# Altium footprint library Socket.PcbLib: 15 footprints
Each footprint in its own frame and in the unit in brackets; x right, y up, seen from the top. Pads: shape width x height; smd on the part's side, far side on the other; paste and mask are expansions set on the pad; w line width, h text height; cw(c..) or ccw(c..) is an arc to the next point about the centre after c.
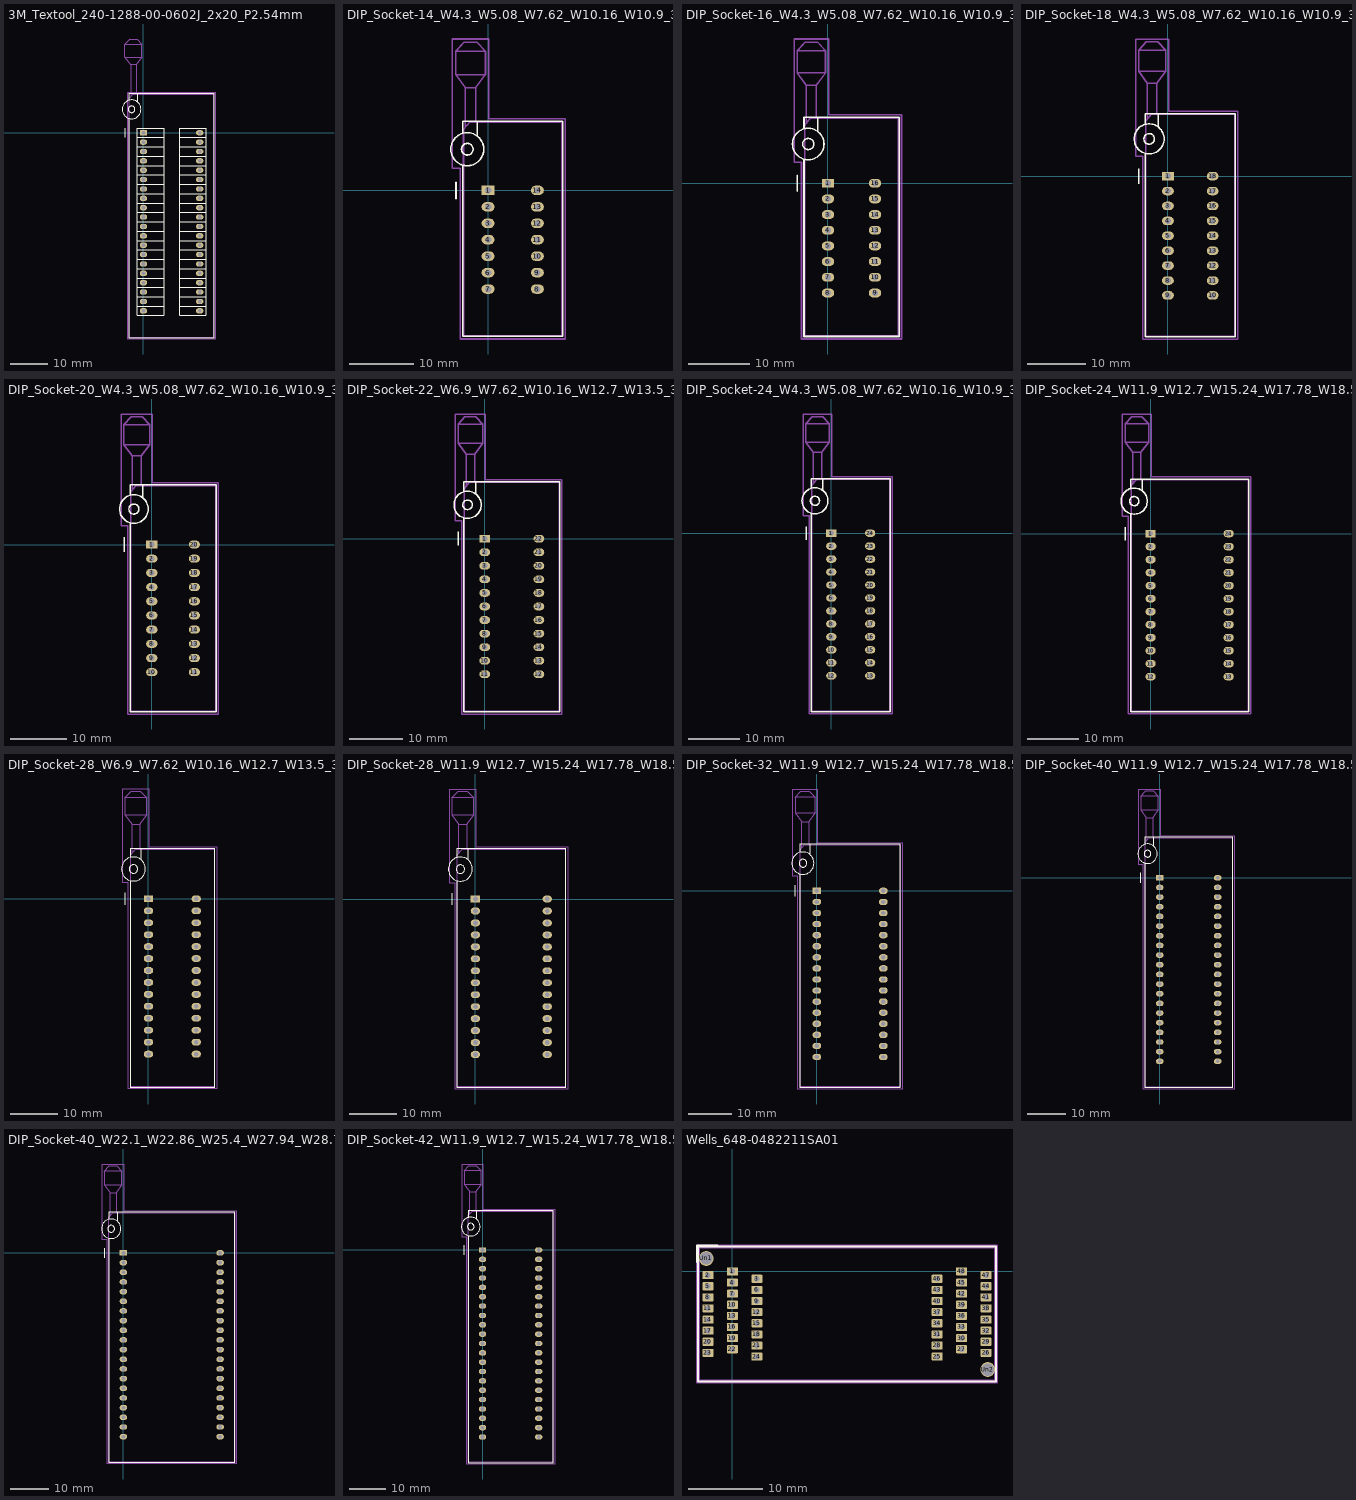
[diagram p0: the footprints below, top view; thin cyan lines are the x and y axes]

## 3M_Textool_240-1288-00-0602J_2x20_P2.54mm [mm]
pads (40):
  rect 2x1.44 hole 1: 1(0,0)
  rrect100% 2x1.44 hole 1: 2(0,-2.54) 3(0,-5.08) 4(0,-7.62) 5(0,-10.16) 6(0,-12.7) 7(0,-15.24) 8(0,-17.78) 9(0,-20.32) 10(0,-22.86) 11(0,-25.4) 12(0,-27.94) 13(0,-30.48) 14(0,-33.02) 15(0,-35.56) 16(0,-38.1) 17(0,-40.64) 18(0,-43.18) 19(0,-45.72) 20(0,-48.26) 21(15.24,-48.26) 22(15.24,-45.72) 23(15.24,-43.18) 24(15.24,-40.64) 25(15.24,-38.1) 26(15.24,-35.56) 27(15.24,-33.02) 28(15.24,-30.48) 29(15.24,-27.94) 30(15.24,-25.4) 31(15.24,-22.86) 32(15.24,-20.32) 33(15.24,-17.78) 34(15.24,-15.24) 35(15.24,-12.7) 36(15.24,-10.16) 37(15.24,-7.62) 38(15.24,-5.08) 39(15.24,-2.54) 40(15.24,0)
F.SilkS:
  circle w0.254: c-3.2,6.35 r0.9
  circle w0.254: c-3.2,6.35 r2.55
  lines w0.254: -4.95,-1.27 -4.95,1.27 ; -3.95,3.9 -3.95,-55.5 19.15,-55.5 19.15,10.5 -3.95,10.5 -3.95,8.8 ; -1.65,8.4 -1.65,10.4 ; -1.645,-46.99 -1.645,-44.45 ; -1.645,-46.99 5.455,-46.99 ; -1.645,-46.99 -1.645,-49.53 5.455,-49.53 5.455,-46.99 ; -1.645,-44.45 -1.645,-41.91 ; -1.645,-44.45 5.455,-44.45 ; -1.645,-41.91 -1.645,-39.37 ; -1.645,-41.91 5.455,-41.91 ; -1.645,-39.37 -1.645,-36.83 ; -1.645,-39.37 5.455,-39.37 ; -1.645,-36.83 -1.645,-34.29 ; -1.645,-36.83 5.455,-36.83 ; -1.645,-34.29 -1.645,-31.75 ; -1.645,-34.29 5.455,-34.29 ; -1.645,-31.75 -1.645,-29.21 ; -1.645,-31.75 5.455,-31.75 ; -1.645,-29.21 -1.645,-26.67 ; -1.645,-29.21 5.455,-29.21 ; -1.645,-26.67 -1.645,-24.13 ; -1.645,-26.67 5.455,-26.67 ; -1.645,-24.13 -1.645,-21.59 ; -1.645,-24.13 5.455,-24.13 ; -1.645,-21.59 -1.645,-19.05 ; -1.645,-21.59 5.455,-21.59 ; -1.645,-19.05 -1.645,-16.51 ; -1.645,-19.05 5.455,-19.05 ; -1.645,-16.51 -1.645,-13.97 ; -1.645,-16.51 5.455,-16.51 ; -1.645,-13.97 -1.645,-11.43 ; -1.645,-13.97 5.455,-13.97 ; -1.645,-11.43 -1.645,-8.89 ; -1.645,-11.43 5.455,-11.43 ; -1.645,-8.89 -1.645,-6.35 ; -1.645,-8.89 5.455,-8.89 ; -1.645,-6.35 -1.645,-3.81 ; -1.645,-6.35 5.455,-6.35 ; -1.645,-3.81 -1.645,-1.27 ; -1.645,-3.81 5.455,-3.81 ; -1.645,-1.27 -1.645,1.27 5.455,1.27 5.455,-1.27 ; -1.645,-1.27 5.455,-1.27 ; 5.455,-46.99 5.455,-44.45 ; 5.455,-44.45 5.455,-41.91 ; 5.455,-41.91 5.455,-39.37 ; 5.455,-39.37 5.455,-36.83 ; 5.455,-36.83 5.455,-34.29 ; 5.455,-34.29 5.455,-31.75 ; 5.455,-31.75 5.455,-29.21 ; 5.455,-29.21 5.455,-26.67 ; 5.455,-26.67 5.455,-24.13 ; 5.455,-24.13 5.455,-21.59 ; 5.455,-21.59 5.455,-19.05 ; 5.455,-19.05 5.455,-16.51 ; 5.455,-16.51 5.455,-13.97 ; 5.455,-13.97 5.455,-11.43 ; 5.455,-11.43 5.455,-8.89 ; 5.455,-8.89 5.455,-6.35 ; 5.455,-6.35 5.455,-3.81 ; 5.455,-3.81 5.455,-1.27 ; 9.785,-46.99 9.785,-44.45 ; 9.785,-46.99 16.885,-46.99 ; 9.785,-46.99 9.785,-49.53 16.885,-49.53 16.885,-46.99 ; 9.785,-44.45 9.785,-41.91 ; 9.785,-44.45 16.885,-44.45 ; 9.785,-41.91 9.785,-39.37 ; 9.785,-41.91 16.885,-41.91 ; 9.785,-39.37 9.785,-36.83 ; 9.785,-39.37 16.885,-39.37 ; 9.785,-36.83 9.785,-34.29 ; 9.785,-36.83 16.885,-36.83 ; 9.785,-34.29 9.785,-31.75 ; 9.785,-34.29 16.885,-34.29 ; 9.785,-31.75 9.785,-29.21 ; 9.785,-31.75 16.885,-31.75 ; 9.785,-29.21 9.785,-26.67 ; 9.785,-29.21 16.885,-29.21 ; 9.785,-26.67 9.785,-24.13 ; 9.785,-26.67 16.885,-26.67 ; 9.785,-24.13 9.785,-21.59 ; 9.785,-24.13 16.885,-24.13 ; 9.785,-21.59 9.785,-19.05 ; 9.785,-21.59 16.885,-21.59 ; 9.785,-19.05 9.785,-16.51 ; 9.785,-19.05 16.885,-19.05 ; 9.785,-16.51 9.785,-13.97 ; 9.785,-16.51 16.885,-16.51 ; 9.785,-13.97 9.785,-11.43 ; 9.785,-13.97 16.885,-13.97 ; 9.785,-11.43 9.785,-8.89 ; 9.785,-11.43 16.885,-11.43 ; 9.785,-8.89 9.785,-6.35 ; 9.785,-8.89 16.885,-8.89 ; 9.785,-6.35 9.785,-3.81 ; 9.785,-6.35 16.885,-6.35 ; 9.785,-3.81 9.785,-1.27 ; 9.785,-3.81 16.885,-3.81 ; 9.785,-1.27 9.785,1.27 16.885,1.27 16.885,-1.27 ; 9.785,-1.27 16.885,-1.27 ; 16.885,-46.99 16.885,-44.45 ; 16.885,-44.45 16.885,-41.91 ; 16.885,-41.91 16.885,-39.37 ; 16.885,-39.37 16.885,-36.83 ; 16.885,-36.83 16.885,-34.29 ; 16.885,-34.29 16.885,-31.75 ; 16.885,-31.75 16.885,-29.21 ; 16.885,-29.21 16.885,-26.67 ; 16.885,-26.67 16.885,-24.13 ; 16.885,-24.13 16.885,-21.59 ; 16.885,-21.59 16.885,-19.05 ; 16.885,-19.05 16.885,-16.51 ; 16.885,-16.51 16.885,-13.97 ; 16.885,-13.97 16.885,-11.43 ; 16.885,-11.43 16.885,-8.89 ; 16.885,-8.89 16.885,-6.35 ; 16.885,-6.35 16.885,-3.81 ; 16.885,-3.81 16.885,-1.27
F.Fab:
  lines w0.254: -3.5,9.75 -3.5,18.4 ; -1.9,10.4 -1.9,18.4 ; -5,20.4 -5,24 ; -5,20.4 -3.5,18.4 ; -5,20.4 -0.4,20.4 ; -5,24 -0.4,24 ; -5,24 -3.7,25.4 -1.7,25.4 -0.4,24 ; -3.5,18.4 -1.9,18.4 ; -1.9,18.4 -0.4,20.4 ; -0.4,20.4 -0.4,24 ; -3.85,-55.4 -3.85,9.4 -2.85,10.4 19.05,10.4 19.05,-55.4 -3.85,-55.4
  text "'.Designator'" at 3.573,-25.605 h1
F.CrtYd:
  lines w0.254: -4.3,-55.9 -4.3,10.9 19.6,10.9 19.6,-55.9 -4.3,-55.9

## DIP_Socket-14_W4.3_W5.08_W7.62_W10.16_W10.9_3M_214-3339-00-0602J [mm]
pads (14):
  rect 2x1.44 hole 1: 1(0,0)
  rrect100% 2x1.44 hole 1: 2(0,-2.54) 3(0,-5.08) 4(0,-7.62) 5(0,-10.16) 6(0,-12.7) 7(0,-15.24) 8(7.62,-15.24) 9(7.62,-12.7) 10(7.62,-10.16) 11(7.62,-7.62) 12(7.62,-5.08) 13(7.62,-2.54) 14(7.62,0)
F.SilkS:
  circle w0.254: c-3.2,6.35 r0.9
  circle w0.254: c-3.2,6.35 r2.55
  lines w0.254: -4.95,-1.27 -4.95,1.27 ; -3.89,3.9 -3.89,-22.54 11.51,-22.54 11.51,10.66 -3.89,10.66 -3.89,8.8 ; -1.65,8.4 -1.65,10.66
F.Fab:
  lines w0.254: -3.5,9.75 -3.5,15.86 ; -1.9,10.56 -1.9,15.86 ; -5,17.86 -5,21.46 ; -5,17.86 -3.5,15.86 ; -5,17.86 -0.4,17.86 ; -5,21.46 -3.7,22.86 -1.7,22.86 -0.4,21.46 ; -5,21.46 -0.4,21.46 ; -3.5,15.86 -1.9,15.86 ; -1.9,15.86 -0.4,17.86 ; -0.4,17.86 -0.4,21.46 ; -3.79,-22.44 -3.79,9.4 -2.85,10.56 11.41,10.56 11.41,-22.44 -3.79,-22.44
  text "'.Designator'" at -0.237,-6.78 h1
F.CrtYd:
  lines w0.254: -5.5,3.4 -5.5,23.36 0.1,23.36 0.1,11.06 11.91,11.06 11.91,-22.94 -4.29,-22.94 -4.29,3.4 -5.5,3.4

## DIP_Socket-16_W4.3_W5.08_W7.62_W10.16_W10.9_3M_216-3340-00-0602J [mm]
pads (16):
  rect 2x1.44 hole 1: 1(0,0)
  rrect100% 2x1.44 hole 1: 2(0,-2.54) 3(0,-5.08) 4(0,-7.62) 5(0,-10.16) 6(0,-12.7) 7(0,-15.24) 8(0,-17.78) 9(7.62,-17.78) 10(7.62,-15.24) 11(7.62,-12.7) 12(7.62,-10.16) 13(7.62,-7.62) 14(7.62,-5.08) 15(7.62,-2.54) 16(7.62,0)
F.SilkS:
  circle w0.254: c-3.2,6.35 r0.9
  circle w0.254: c-3.2,6.35 r2.55
  lines w0.254: -4.95,-1.27 -4.95,1.27 ; -3.89,3.9 -3.89,-24.84 11.51,-24.84 11.51,10.66 -3.89,10.66 -3.89,8.8 ; -1.65,8.4 -1.65,10.66
F.Fab:
  lines w0.254: -3.5,9.75 -3.5,15.86 ; -1.9,10.56 -1.9,15.86 ; -5,17.86 -5,21.46 ; -5,17.86 -3.5,15.86 ; -5,17.86 -0.4,17.86 ; -5,21.46 -3.7,22.86 -1.7,22.86 -0.4,21.46 ; -5,21.46 -0.4,21.46 ; -3.5,15.86 -1.9,15.86 ; -1.9,15.86 -0.4,17.86 ; -0.4,17.86 -0.4,21.46 ; -3.79,-24.74 -3.79,9.4 -2.85,10.56 11.41,10.56 11.41,-24.74 -3.79,-24.74
  text "'.Designator'" at -0.237,-7.93 h1
F.CrtYd:
  lines w0.254: -5.5,3.4 -5.5,23.36 0.1,23.36 0.1,11.06 11.91,11.06 11.91,-25.24 -4.29,-25.24 -4.29,3.4 -5.5,3.4

## DIP_Socket-18_W4.3_W5.08_W7.62_W10.16_W10.9_3M_218-3341-00-0602J [mm]
pads (18):
  rect 2x1.44 hole 1: 1(0,0)
  rrect100% 2x1.44 hole 1: 2(0,-2.54) 3(0,-5.08) 4(0,-7.62) 5(0,-10.16) 6(0,-12.7) 7(0,-15.24) 8(0,-17.78) 9(0,-20.32) 10(7.62,-20.32) 11(7.62,-17.78) 12(7.62,-15.24) 13(7.62,-12.7) 14(7.62,-10.16) 15(7.62,-7.62) 16(7.62,-5.08) 17(7.62,-2.54) 18(7.62,0)
F.SilkS:
  circle w0.254: c-3.2,6.35 r0.9
  circle w0.254: c-3.2,6.35 r2.55
  lines w0.254: -4.95,-1.27 -4.95,1.27 ; -3.89,3.9 -3.89,-27.34 11.51,-27.34 11.51,10.66 -3.89,10.66 -3.89,8.8 ; -1.65,8.4 -1.65,10.66
F.Fab:
  lines w0.254: -3.5,9.75 -3.5,15.86 ; -1.9,10.56 -1.9,15.86 ; -5,17.86 -5,21.46 ; -5,17.86 -3.5,15.86 ; -5,17.86 -0.4,17.86 ; -5,21.46 -3.7,22.86 -1.7,22.86 -0.4,21.46 ; -5,21.46 -0.4,21.46 ; -3.5,15.86 -1.9,15.86 ; -1.9,15.86 -0.4,17.86 ; -0.4,17.86 -0.4,21.46 ; -3.79,-27.24 -3.79,9.4 -2.85,10.56 11.41,10.56 11.41,-27.24 -3.79,-27.24
  text "'.Designator'" at -0.237,-9.18 h1
F.CrtYd:
  lines w0.254: -5.5,3.4 -5.5,23.36 0.1,23.36 0.1,11.06 11.91,11.06 11.91,-27.74 -4.29,-27.74 -4.29,3.4 -5.5,3.4

## DIP_Socket-20_W4.3_W5.08_W7.62_W10.16_W10.9_3M_220-3342-00-0602J [mm]
pads (20):
  rect 2x1.44 hole 1: 1(0,0)
  rrect100% 2x1.44 hole 1: 2(0,-2.54) 3(0,-5.08) 4(0,-7.62) 5(0,-10.16) 6(0,-12.7) 7(0,-15.24) 8(0,-17.78) 9(0,-20.32) 10(0,-22.86) 11(7.62,-22.86) 12(7.62,-20.32) 13(7.62,-17.78) 14(7.62,-15.24) 15(7.62,-12.7) 16(7.62,-10.16) 17(7.62,-7.62) 18(7.62,-5.08) 19(7.62,-2.54) 20(7.62,0)
F.SilkS:
  circle w0.254: c-3.2,6.35 r0.9
  circle w0.254: c-3.2,6.35 r2.55
  lines w0.254: -4.95,-1.27 -4.95,1.27 ; -3.89,3.9 -3.89,-29.94 11.51,-29.94 11.51,10.66 -3.89,10.66 -3.89,8.8 ; -1.65,8.4 -1.65,10.66
F.Fab:
  lines w0.254: -3.5,9.75 -3.5,15.86 ; -1.9,10.56 -1.9,15.86 ; -5,17.86 -5,21.46 ; -5,17.86 -3.5,15.86 ; -5,17.86 -0.4,17.86 ; -5,21.46 -3.7,22.86 -1.7,22.86 -0.4,21.46 ; -5,21.46 -0.4,21.46 ; -3.5,15.86 -1.9,15.86 ; -1.9,15.86 -0.4,17.86 ; -0.4,17.86 -0.4,21.46 ; -3.79,-29.84 -3.79,9.4 -2.85,10.56 11.41,10.56 11.41,-29.84 -3.79,-29.84
  text "'.Designator'" at -0.237,-10.48 h1
F.CrtYd:
  lines w0.254: -5.5,3.4 -5.5,23.36 0.1,23.36 0.1,11.06 11.91,11.06 11.91,-30.34 -4.29,-30.34 -4.29,3.4 -5.5,3.4

## DIP_Socket-22_W6.9_W7.62_W10.16_W12.7_W13.5_3M_222-3343-00-0602J [mm]
pads (22):
  rect 2x1.44 hole 1: 1(0,0)
  rrect100% 2x1.44 hole 1: 2(0,-2.54) 3(0,-5.08) 4(0,-7.62) 5(0,-10.16) 6(0,-12.7) 7(0,-15.24) 8(0,-17.78) 9(0,-20.32) 10(0,-22.86) 11(0,-25.4) 12(10.16,-25.4) 13(10.16,-22.86) 14(10.16,-20.32) 15(10.16,-17.78) 16(10.16,-15.24) 17(10.16,-12.7) 18(10.16,-10.16) 19(10.16,-7.62) 20(10.16,-5.08) 21(10.16,-2.54) 22(10.16,0)
F.SilkS:
  circle w0.254: c-3.2,6.35 r0.9
  circle w0.254: c-3.2,6.35 r2.55
  lines w0.254: -4.95,-1.27 -4.95,1.27 ; -3.92,3.9 -3.92,-32.44 14.08,-32.44 14.08,10.66 -3.92,10.66 -3.92,8.8 ; -1.65,8.4 -1.65,10.66
F.Fab:
  lines w0.254: -3.5,9.75 -3.5,15.86 ; -1.9,10.56 -1.9,15.86 ; -5,17.86 -5,21.46 ; -5,17.86 -3.5,15.86 ; -5,17.86 -0.4,17.86 ; -5,21.46 -3.7,22.86 -1.7,22.86 -0.4,21.46 ; -5,21.46 -0.4,21.46 ; -3.5,15.86 -1.9,15.86 ; -1.9,15.86 -0.4,17.86 ; -0.4,17.86 -0.4,21.46 ; -3.82,-32.34 -3.82,9.4 -2.85,10.56 13.98,10.56 13.98,-32.34 -3.82,-32.34
  text "'.Designator'" at 1.033,-11.73 h1
F.CrtYd:
  lines w0.254: -5.5,3.4 -5.5,23.36 0.1,23.36 0.1,11.06 14.48,11.06 14.48,-32.84 -4.32,-32.84 -4.32,3.4 -5.5,3.4

## DIP_Socket-24_W4.3_W5.08_W7.62_W10.16_W10.9_3M_224-5248-00-0602J [mm]
pads (24):
  rect 2x1.44 hole 1: 1(0,0)
  rrect100% 2x1.44 hole 1: 2(0,-2.54) 3(0,-5.08) 4(0,-7.62) 5(0,-10.16) 6(0,-12.7) 7(0,-15.24) 8(0,-17.78) 9(0,-20.32) 10(0,-22.86) 11(0,-25.4) 12(0,-27.94) 13(7.62,-27.94) 14(7.62,-25.4) 15(7.62,-22.86) 16(7.62,-20.32) 17(7.62,-17.78) 18(7.62,-15.24) 19(7.62,-12.7) 20(7.62,-10.16) 21(7.62,-7.62) 22(7.62,-5.08) 23(7.62,-2.54) 24(7.62,0)
F.SilkS:
  circle w0.254: c-3.2,6.35 r0.9
  circle w0.254: c-3.2,6.35 r2.55
  lines w0.254: -4.95,-1.27 -4.95,1.27 ; -3.89,3.9 -3.89,-35.04 11.51,-35.04 11.51,10.66 -3.89,10.66 -3.89,8.8 ; -1.65,8.4 -1.65,10.66
F.Fab:
  lines w0.254: -3.5,9.75 -3.5,15.86 ; -1.9,10.56 -1.9,15.86 ; -5,17.86 -5,21.46 ; -5,17.86 -3.5,15.86 ; -5,17.86 -0.4,17.86 ; -5,21.46 -3.7,22.86 -1.7,22.86 -0.4,21.46 ; -5,21.46 -0.4,21.46 ; -3.5,15.86 -1.9,15.86 ; -1.9,15.86 -0.4,17.86 ; -0.4,17.86 -0.4,21.46 ; -3.79,-34.94 -3.79,9.4 -2.85,10.56 11.41,10.56 11.41,-34.94 -3.79,-34.94
  text "'.Designator'" at -0.237,-13.03 h1
F.CrtYd:
  lines w0.254: -5.5,3.4 -5.5,23.36 0.1,23.36 0.1,11.06 11.91,11.06 11.91,-35.44 -4.29,-35.44 -4.29,3.4 -5.5,3.4

## DIP_Socket-24_W11.9_W12.7_W15.24_W17.78_W18.5_3M_224-1275-00-0602J [mm]
pads (24):
  rect 2x1.44 hole 1: 1(0,0)
  rrect100% 2x1.44 hole 1: 2(0,-2.54) 3(0,-5.08) 4(0,-7.62) 5(0,-10.16) 6(0,-12.7) 7(0,-15.24) 8(0,-17.78) 9(0,-20.32) 10(0,-22.86) 11(0,-25.4) 12(0,-27.94) 13(15.24,-27.94) 14(15.24,-25.4) 15(15.24,-22.86) 16(15.24,-20.32) 17(15.24,-17.78) 18(15.24,-15.24) 19(15.24,-12.7) 20(15.24,-10.16) 21(15.24,-7.62) 22(15.24,-5.08) 23(15.24,-2.54) 24(15.24,0)
F.SilkS:
  circle w0.254: c-3.2,6.35 r0.9
  circle w0.254: c-3.2,6.35 r2.55
  lines w0.254: -4.95,-1.27 -4.95,1.27 ; -3.93,3.9 -3.93,-34.84 19.17,-34.84 19.17,10.66 -3.93,10.66 -3.93,8.8 ; -1.65,8.4 -1.65,10.66
F.Fab:
  lines w0.254: -3.5,9.75 -3.5,15.86 ; -1.9,10.56 -1.9,15.86 ; -5,17.86 -5,21.46 ; -5,17.86 -3.5,15.86 ; -5,17.86 -0.4,17.86 ; -5,21.46 -3.7,22.86 -1.7,22.86 -0.4,21.46 ; -5,21.46 -0.4,21.46 ; -3.5,15.86 -1.9,15.86 ; -1.9,15.86 -0.4,17.86 ; -0.4,17.86 -0.4,21.46 ; -3.83,-34.74 -3.83,9.4 -2.85,10.56 19.07,10.56 19.07,-34.74 -3.83,-34.74
  text "'.Designator'" at 3.573,-12.93 h1
F.CrtYd:
  lines w0.254: -5.5,3.4 -5.5,23.36 0.1,23.36 0.1,11.06 19.57,11.06 19.57,-35.24 -4.33,-35.24 -4.33,3.4 -5.5,3.4

## DIP_Socket-28_W6.9_W7.62_W10.16_W12.7_W13.5_3M_228-4817-00-0602J [mm]
pads (28):
  rect 2x1.44 hole 1: 1(0,0)
  rrect100% 2x1.44 hole 1: 2(0,-2.54) 3(0,-5.08) 4(0,-7.62) 5(0,-10.16) 6(0,-12.7) 7(0,-15.24) 8(0,-17.78) 9(0,-20.32) 10(0,-22.86) 11(0,-25.4) 12(0,-27.94) 13(0,-30.48) 14(0,-33.02) 15(10.16,-33.02) 16(10.16,-30.48) 17(10.16,-27.94) 18(10.16,-25.4) 19(10.16,-22.86) 20(10.16,-20.32) 21(10.16,-17.78) 22(10.16,-15.24) 23(10.16,-12.7) 24(10.16,-10.16) 25(10.16,-7.62) 26(10.16,-5.08) 27(10.16,-2.54) 28(10.16,0)
F.SilkS:
  circle w0.254: c-3.2,6.35 r0.9
  circle w0.254: c-3.2,6.35 r2.55
  lines w0.254: -4.95,-1.27 -4.95,1.27 ; -3.92,3.9 -3.92,-40.04 14.08,-40.04 14.08,10.66 -3.92,10.66 -3.92,8.8 ; -1.65,8.4 -1.65,10.66
F.Fab:
  lines w0.254: -3.5,9.75 -3.5,15.86 ; -1.9,10.56 -1.9,15.86 ; -5,17.86 -5,21.46 ; -5,17.86 -3.5,15.86 ; -5,17.86 -0.4,17.86 ; -5,21.46 -3.7,22.86 -1.7,22.86 -0.4,21.46 ; -5,21.46 -0.4,21.46 ; -3.5,15.86 -1.9,15.86 ; -1.9,15.86 -0.4,17.86 ; -0.4,17.86 -0.4,21.46 ; -3.82,-39.94 -3.82,9.4 -2.85,10.56 13.98,10.56 13.98,-39.94 -3.82,-39.94
  text "'.Designator'" at 1.033,-15.53 h1
F.CrtYd:
  lines w0.254: -5.5,3.4 -5.5,23.36 0.1,23.36 0.1,11.06 14.48,11.06 14.48,-40.44 -4.32,-40.44 -4.32,3.4 -5.5,3.4

## DIP_Socket-28_W11.9_W12.7_W15.24_W17.78_W18.5_3M_228-1277-00-0602J [mm]
pads (28):
  rect 2x1.44 hole 1: 1(0,0)
  rrect100% 2x1.44 hole 1: 2(0,-2.54) 3(0,-5.08) 4(0,-7.62) 5(0,-10.16) 6(0,-12.7) 7(0,-15.24) 8(0,-17.78) 9(0,-20.32) 10(0,-22.86) 11(0,-25.4) 12(0,-27.94) 13(0,-30.48) 14(0,-33.02) 15(15.24,-33.02) 16(15.24,-30.48) 17(15.24,-27.94) 18(15.24,-25.4) 19(15.24,-22.86) 20(15.24,-20.32) 21(15.24,-17.78) 22(15.24,-15.24) 23(15.24,-12.7) 24(15.24,-10.16) 25(15.24,-7.62) 26(15.24,-5.08) 27(15.24,-2.54) 28(15.24,0)
F.SilkS:
  circle w0.254: c-3.2,6.35 r0.9
  circle w0.254: c-3.2,6.35 r2.55
  lines w0.254: -4.95,-1.27 -4.95,1.27 ; -3.93,3.9 -3.93,-39.94 19.17,-39.94 19.17,10.66 -3.93,10.66 -3.93,8.8 ; -1.65,8.4 -1.65,10.66
F.Fab:
  lines w0.254: -3.5,9.75 -3.5,15.86 ; -1.9,10.56 -1.9,15.86 ; -5,17.86 -5,21.46 ; -5,17.86 -3.5,15.86 ; -5,17.86 -0.4,17.86 ; -5,21.46 -3.7,22.86 -1.7,22.86 -0.4,21.46 ; -5,21.46 -0.4,21.46 ; -3.5,15.86 -1.9,15.86 ; -1.9,15.86 -0.4,17.86 ; -0.4,17.86 -0.4,21.46 ; -3.83,-39.84 -3.83,9.4 -2.85,10.56 19.07,10.56 19.07,-39.84 -3.83,-39.84
  text "'.Designator'" at 3.573,-15.48 h1
F.CrtYd:
  lines w0.254: -5.5,3.4 -5.5,23.36 0.1,23.36 0.1,11.06 19.57,11.06 19.57,-40.34 -4.33,-40.34 -4.33,3.4 -5.5,3.4

## DIP_Socket-32_W11.9_W12.7_W15.24_W17.78_W18.5_3M_232-1285-00-0602J [mm]
pads (32):
  rect 2x1.44 hole 1: 1(0,0)
  rrect100% 2x1.44 hole 1: 2(0,-2.54) 3(0,-5.08) 4(0,-7.62) 5(0,-10.16) 6(0,-12.7) 7(0,-15.24) 8(0,-17.78) 9(0,-20.32) 10(0,-22.86) 11(0,-25.4) 12(0,-27.94) 13(0,-30.48) 14(0,-33.02) 15(0,-35.56) 16(0,-38.1) 17(15.24,-38.1) 18(15.24,-35.56) 19(15.24,-33.02) 20(15.24,-30.48) 21(15.24,-27.94) 22(15.24,-25.4) 23(15.24,-22.86) 24(15.24,-20.32) 25(15.24,-17.78) 26(15.24,-15.24) 27(15.24,-12.7) 28(15.24,-10.16) 29(15.24,-7.62) 30(15.24,-5.08) 31(15.24,-2.54) 32(15.24,0)
F.SilkS:
  circle w0.254: c-3.2,6.35 r0.9
  circle w0.254: c-3.2,6.35 r2.55
  lines w0.254: -4.95,-1.27 -4.95,1.27 ; -3.93,3.9 -3.93,-45.04 19.17,-45.04 19.17,10.66 -3.93,10.66 -3.93,8.8 ; -1.65,8.4 -1.65,10.66
F.Fab:
  lines w0.254: -3.5,9.75 -3.5,15.86 ; -1.9,10.56 -1.9,15.86 ; -5,17.86 -5,21.46 ; -5,17.86 -3.5,15.86 ; -5,17.86 -0.4,17.86 ; -5,21.46 -3.7,22.86 -1.7,22.86 -0.4,21.46 ; -5,21.46 -0.4,21.46 ; -3.5,15.86 -1.9,15.86 ; -1.9,15.86 -0.4,17.86 ; -0.4,17.86 -0.4,21.46 ; -3.83,-44.94 -3.83,9.4 -2.85,10.56 19.07,10.56 19.07,-44.94 -3.83,-44.94
  text "'.Designator'" at 3.573,-18.03 h1
F.CrtYd:
  lines w0.254: -5.5,3.4 -5.5,23.36 0.1,23.36 0.1,11.06 19.57,11.06 19.57,-45.44 -4.33,-45.44 -4.33,3.4 -5.5,3.4

## DIP_Socket-40_W11.9_W12.7_W15.24_W17.78_W18.5_3M_240-1280-00-0602J [mm]
pads (40):
  rect 2x1.44 hole 1: 1(0,0)
  rrect100% 2x1.44 hole 1: 2(0,-2.54) 3(0,-5.08) 4(0,-7.62) 5(0,-10.16) 6(0,-12.7) 7(0,-15.24) 8(0,-17.78) 9(0,-20.32) 10(0,-22.86) 11(0,-25.4) 12(0,-27.94) 13(0,-30.48) 14(0,-33.02) 15(0,-35.56) 16(0,-38.1) 17(0,-40.64) 18(0,-43.18) 19(0,-45.72) 20(0,-48.26) 21(15.24,-48.26) 22(15.24,-45.72) 23(15.24,-43.18) 24(15.24,-40.64) 25(15.24,-38.1) 26(15.24,-35.56) 27(15.24,-33.02) 28(15.24,-30.48) 29(15.24,-27.94) 30(15.24,-25.4) 31(15.24,-22.86) 32(15.24,-20.32) 33(15.24,-17.78) 34(15.24,-15.24) 35(15.24,-12.7) 36(15.24,-10.16) 37(15.24,-7.62) 38(15.24,-5.08) 39(15.24,-2.54) 40(15.24,0)
F.SilkS:
  circle w0.254: c-3.2,6.35 r0.9
  circle w0.254: c-3.2,6.35 r2.55
  lines w0.254: -4.95,-1.27 -4.95,1.27 ; -3.93,3.9 -3.93,-55.14 19.17,-55.14 19.17,10.66 -3.93,10.66 -3.93,8.8 ; -1.65,8.4 -1.65,10.66
F.Fab:
  lines w0.254: -3.5,9.75 -3.5,15.86 ; -1.9,10.56 -1.9,15.86 ; -5,17.86 -5,21.46 ; -5,17.86 -3.5,15.86 ; -5,17.86 -0.4,17.86 ; -5,21.46 -3.7,22.86 -1.7,22.86 -0.4,21.46 ; -5,21.46 -0.4,21.46 ; -3.5,15.86 -1.9,15.86 ; -1.9,15.86 -0.4,17.86 ; -0.4,17.86 -0.4,21.46 ; -3.83,-55.04 -3.83,9.4 -2.85,10.56 19.07,10.56 19.07,-55.04 -3.83,-55.04
  text "'.Designator'" at 3.573,-23.08 h1
F.CrtYd:
  lines w0.254: -5.5,3.4 -5.5,23.36 0.1,23.36 0.1,11.06 19.57,11.06 19.57,-55.54 -4.33,-55.54 -4.33,3.4 -5.5,3.4

## DIP_Socket-40_W22.1_W22.86_W25.4_W27.94_W28.7_3M_240-3639-00-0602J [mm]
pads (40):
  rect 2x1.44 hole 1: 1(0,0)
  rrect100% 2x1.44 hole 1: 2(0,-2.54) 3(0,-5.08) 4(0,-7.62) 5(0,-10.16) 6(0,-12.7) 7(0,-15.24) 8(0,-17.78) 9(0,-20.32) 10(0,-22.86) 11(0,-25.4) 12(0,-27.94) 13(0,-30.48) 14(0,-33.02) 15(0,-35.56) 16(0,-38.1) 17(0,-40.64) 18(0,-43.18) 19(0,-45.72) 20(0,-48.26) 21(25.4,-48.26) 22(25.4,-45.72) 23(25.4,-43.18) 24(25.4,-40.64) 25(25.4,-38.1) 26(25.4,-35.56) 27(25.4,-33.02) 28(25.4,-30.48) 29(25.4,-27.94) 30(25.4,-25.4) 31(25.4,-22.86) 32(25.4,-20.32) 33(25.4,-17.78) 34(25.4,-15.24) 35(25.4,-12.7) 36(25.4,-10.16) 37(25.4,-7.62) 38(25.4,-5.08) 39(25.4,-2.54) 40(25.4,0)
F.SilkS:
  circle w0.254: c-3.2,6.35 r0.9
  circle w0.254: c-3.2,6.35 r2.55
  lines w0.254: -4.95,-1.27 -4.95,1.27 ; -3.9,3.9 -3.9,-55.04 29.3,-55.04 29.3,10.66 -3.9,10.66 -3.9,8.8 ; -1.65,8.4 -1.65,10.66
F.Fab:
  lines w0.254: -3.5,9.75 -3.5,15.86 ; -1.9,10.56 -1.9,15.86 ; -5,17.86 -5,21.46 ; -5,17.86 -3.5,15.86 ; -5,17.86 -0.4,17.86 ; -5,21.46 -3.7,22.86 -1.7,22.86 -0.4,21.46 ; -5,21.46 -0.4,21.46 ; -3.5,15.86 -1.9,15.86 ; -1.9,15.86 -0.4,17.86 ; -0.4,17.86 -0.4,21.46 ; -3.8,-54.94 -3.8,9.4 -2.85,10.56 29.2,10.56 29.2,-54.94 -3.8,-54.94
  text "'.Designator'" at 8.653,-23.03 h1
F.CrtYd:
  lines w0.254: -5.5,3.4 -5.5,23.36 0.1,23.36 0.1,11.06 29.7,11.06 29.7,-55.44 -4.3,-55.44 -4.3,3.4 -5.5,3.4

## DIP_Socket-42_W11.9_W12.7_W15.24_W17.78_W18.5_3M_242-1281-00-0602J [mm]
pads (42):
  rect 2x1.44 hole 1: 1(0,0)
  rrect100% 2x1.44 hole 1: 2(0,-2.54) 3(0,-5.08) 4(0,-7.62) 5(0,-10.16) 6(0,-12.7) 7(0,-15.24) 8(0,-17.78) 9(0,-20.32) 10(0,-22.86) 11(0,-25.4) 12(0,-27.94) 13(0,-30.48) 14(0,-33.02) 15(0,-35.56) 16(0,-38.1) 17(0,-40.64) 18(0,-43.18) 19(0,-45.72) 20(0,-48.26) 21(0,-50.8) 22(15.24,-50.8) 23(15.24,-48.26) 24(15.24,-45.72) 25(15.24,-43.18) 26(15.24,-40.64) 27(15.24,-38.1) 28(15.24,-35.56) 29(15.24,-33.02) 30(15.24,-30.48) 31(15.24,-27.94) 32(15.24,-25.4) 33(15.24,-22.86) 34(15.24,-20.32) 35(15.24,-17.78) 36(15.24,-15.24) 37(15.24,-12.7) 38(15.24,-10.16) 39(15.24,-7.62) 40(15.24,-5.08) 41(15.24,-2.54) 42(15.24,0)
F.SilkS:
  circle w0.254: c-3.2,6.35 r0.9
  circle w0.254: c-3.2,6.35 r2.55
  lines w0.254: -4.95,-1.27 -4.95,1.27 ; -3.93,3.9 -3.93,-57.74 19.17,-57.74 19.17,10.66 -3.93,10.66 -3.93,8.8 ; -1.65,8.4 -1.65,10.66
F.Fab:
  lines w0.254: -3.5,9.75 -3.5,15.86 ; -1.9,10.56 -1.9,15.86 ; -5,17.86 -5,21.46 ; -5,17.86 -3.5,15.86 ; -5,17.86 -0.4,17.86 ; -5,21.46 -3.7,22.86 -1.7,22.86 -0.4,21.46 ; -5,21.46 -0.4,21.46 ; -3.5,15.86 -1.9,15.86 ; -1.9,15.86 -0.4,17.86 ; -0.4,17.86 -0.4,21.46 ; -3.83,-57.64 -3.83,9.4 -2.85,10.56 19.07,10.56 19.07,-57.64 -3.83,-57.64
  text "'.Designator'" at 3.573,-24.38 h1
F.CrtYd:
  lines w0.254: -5.5,3.4 -5.5,23.36 0.1,23.36 0.1,11.06 19.57,11.06 19.57,-58.14 -4.33,-58.14 -4.33,3.4 -5.5,3.4

## Wells_648-0482211SA01 [mm]
pads (50):
  rect 1.5x1.1 hole 0.75: 1(0,0)
  rrect25% 1.5x1.1 hole 0.75: 2(-3.3,-0.5) 3(3.3,-1) 4(0,-1.5) 5(-3.3,-2) 6(3.3,-2.5) 7(0,-3) 8(-3.3,-3.5) 9(3.3,-4) 10(0,-4.5) 11(-3.3,-5) 12(3.3,-5.5) 13(0,-6) 14(-3.3,-6.5) 15(3.3,-7) 16(0,-7.5) 17(-3.3,-8) 18(3.3,-8.5) 19(0,-9) 20(-3.3,-9.5) 21(3.3,-10) 22(0,-10.5) 23(-3.3,-11) 24(3.3,-11.5) 25(27.64,-11.5) 26(34.24,-11) 27(30.94,-10.5) 28(27.64,-10) 29(34.24,-9.5) 30(30.94,-9) 31(27.64,-8.5) 32(34.24,-8) 33(30.94,-7.5) 34(27.64,-7) 35(34.24,-6.5) 36(30.94,-6) 37(27.64,-5.5) 38(34.24,-5) 39(30.94,-4.5) 40(27.64,-4) 41(34.24,-3.5) 42(30.94,-3) 43(27.64,-2.5) 44(34.24,-2) 45(30.94,-1.5) 46(27.64,-1) 47(34.24,-0.5) 48(30.94,0)
  round 2 hole 1.7: Un1(-3.53,1.75) Un2(34.47,-13.25)
F.SilkS:
  lines w0.254: -4.78,1.25 -4.78,3.5 -2.03,3.5 ; -4.64,-14.86 -4.64,3.36 35.58,3.36 35.58,-14.86 -4.64,-14.86
F.Fab:
  lines w0.254: -4.53,-14.75 -4.53,3.25 35.47,3.25 35.47,-14.75 -4.53,-14.75
  text "'.Designator'" at 11.423,-16.84 h1
F.CrtYd:
  lines w0.254: -4.78,-15 -4.78,3.5 35.72,3.5 35.72,-15 -4.78,-15